# Altium schematic symbol library TPS259401AQRVCRQ1.SchLib: 2 symbols
Pins are listed as number, name and electrical type; pins without a type are passive.

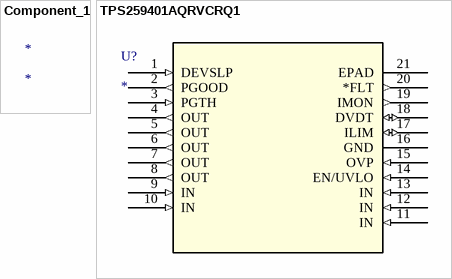
[diagram p0: symbols Component_1 to TPS259401AQRVCRQ1]

## Component_1
designator *

## TPS259401AQRVCRQ1
designator U?
No Description Available; Mfr_Name: Texas Instruments; Type: Power Management; RefDes: RefDes
footprint WQFN_3QRVCRQ1_TEX
pins: 1 DEVSLP (in), 2 PGOOD (out), 3 PGTH (in), 4 OUT (out), 5 OUT (out), 6 OUT (out), 7 OUT (out), 8 OUT (out), 9 IN (in), 10 IN (in), 11 IN (in), 12 IN (in), 13 IN (in), 14 EN/UVLO (in), 15 OVP (in), 16 GND (power), 17 ILIM (io), 18 DVDT (io), 19 IMON (out), 20 *FLT (out), 21 EPAD (power)